# EAGLE library part CONN_5X2 (library motordriverslib)
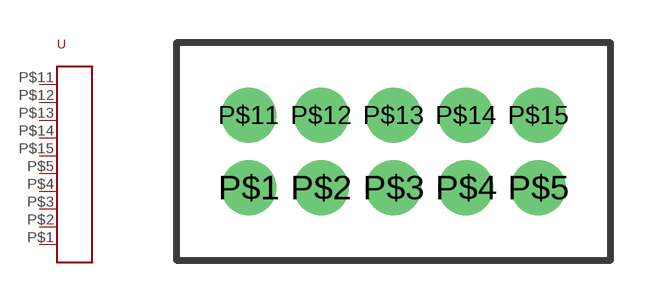
[diagram p3: symbol with the pads of CONN_5X2; footprint CONN_5X2]

Designator prefix -

## CONN_5X2  [CONN_5X2]
P$1  P$1
P$2  P$2
P$3  P$3
P$4  P$4
P$5  P$5
P$11  P$10
P$12  P$9
P$13  P$8
P$14  P$7
P$15  P$6

## Footprint CONN_5X2 (pad centres in mm)
drill 1.016 pad 1.93: P$1 -5.08,-1.27; P$2 -2.54,-1.27; P$3 0,-1.27; P$4 2.54,-1.27; P$5 5.08,-1.27; P$11 -5.08,1.27; P$12 -2.54,1.27; P$13 0,1.27; P$14 2.54,1.27; P$15 5.08,1.27